# EAGLE library part TSW-147-02-S-S (library con-samtec)
THROUGH-HOLE .025" SQ POST HEADER Source: Samtec TSW.pdf
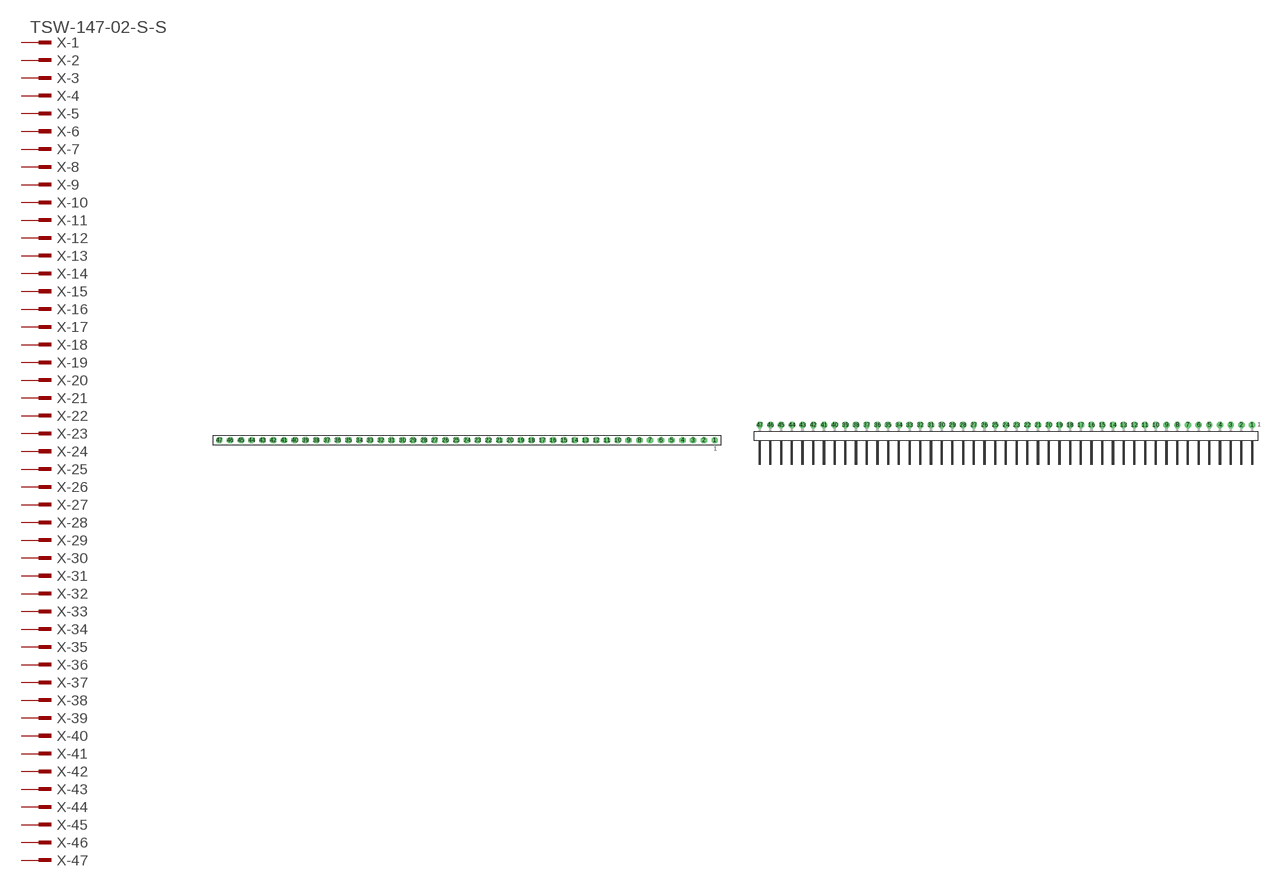
[diagram p199: symbol with the pads of TSW-147-02-S-S; footprints TSW-147-02-S-S, TSW-147-02-S-S-RA]

Designator prefix X; gates -1=MPINV -2=MPIN -3=MPIN -4=MPIN -5=MPIN -6=MPIN -7=MPIN -8=MPIN -9=MPIN -10=MPIN -11=MPIN -12=MPIN -13=MPIN -14=MPIN -15=MPIN -16=MPIN -17=MPIN -18=MPIN -19=MPIN -20=MPIN -21=MPIN -22=MPIN -23=MPIN -24=MPIN -25=MPIN -26=MPIN -27=MPIN -28=MPIN -29=MPIN -30=MPIN -31=MPIN -32=MPIN -33=MPIN -34=MPIN -35=MPIN -36=MPIN -37=MPIN -38=MPIN -39=MPIN -40=MPIN -41=MPIN -42=MPIN -43=MPIN -44=MPIN -45=MPIN -46=MPIN -47=MPIN

## TSW-147-02-S-S (OC_FARNELL: unknown; OC_NEWARK: unknown)  [TSW-147-02-S-S]
1  -1:1  pas
2  -2:1  pas
3  -3:1  pas
4  -4:1  pas
5  -5:1  pas
6  -6:1  pas
7  -7:1  pas
8  -8:1  pas
9  -9:1  pas
10  -10:1  pas
11  -11:1  pas
12  -12:1  pas
13  -13:1  pas
14  -14:1  pas
15  -15:1  pas
16  -16:1  pas
17  -17:1  pas
18  -18:1  pas
19  -19:1  pas
20  -20:1  pas
21  -21:1  pas
22  -22:1  pas
23  -23:1  pas
24  -24:1  pas
25  -25:1  pas
26  -26:1  pas
27  -27:1  pas
28  -28:1  pas
29  -29:1  pas
30  -30:1  pas
31  -31:1  pas
32  -32:1  pas
33  -33:1  pas
34  -34:1  pas
35  -35:1  pas
36  -36:1  pas
37  -37:1  pas
38  -38:1  pas
39  -39:1  pas
40  -40:1  pas
41  -41:1  pas
42  -42:1  pas
43  -43:1  pas
44  -44:1  pas
45  -45:1  pas
46  -46:1  pas
47  -47:1  pas

## TSW-147-02-S-S-RA (OC_FARNELL: unknown; OC_NEWARK: unknown)  [TSW-147-02-S-S-RA]
Pads as for TSW-147-02-S-S

## Footprint TSW-147-02-S-S (pad centres in mm)
THROUGH-HOLE .025" SQ POST HEADER Source: Samtec TSW.pdf
drill 1 pad 1.5 octagon: 1 58.42,0; 2 55.88,0; 3 53.34,0; 4 50.8,0; 5 48.26,0; 6 45.72,0; 7 43.18,0; 8 40.64,0; 9 38.1,0; 10 35.56,0; 11 33.02,0; 12 30.48,0; 13 27.94,0; 14 25.4,0; 15 22.86,0; 16 20.32,0; 17 17.78,0; 18 15.24,0; 19 12.7,0; 20 10.16,0; 21 7.62,0; 22 5.08,0; 23 2.54,0; 24 0,0; 25 -2.54,0; 26 -5.08,0; 27 -7.62,0; 28 -10.16,0; 29 -12.7,0; 30 -15.24,0; 31 -17.78,0; 32 -20.32,0; 33 -22.86,0; 34 -25.4,0; 35 -27.94,0; 36 -30.48,0; 37 -33.02,0; 38 -35.56,0; 39 -38.1,0; 40 -40.64,0; 41 -43.18,0; 42 -45.72,0; 43 -48.26,0; 44 -50.8,0; 45 -53.34,0; 46 -55.88,0; 47 -58.42,0

## Footprint TSW-147-02-S-S-RA (pad centres in mm)
THROUGH-HOLE .025" SQ POST HEADER Source: Samtec TSW.pdf
drill 1 pad 1.5 octagon: 1 58.42,1.524; 2 55.88,1.524; 3 53.34,1.524; 4 50.8,1.524; 5 48.26,1.524; 6 45.72,1.524; 7 43.18,1.524; 8 40.64,1.524; 9 38.1,1.524; 10 35.56,1.524; 11 33.02,1.524; 12 30.48,1.524; 13 27.94,1.524; 14 25.4,1.524; 15 22.86,1.524; 16 20.32,1.524; 17 17.78,1.524; 18 15.24,1.524; 19 12.7,1.524; 20 10.16,1.524; 21 7.62,1.524; 22 5.08,1.524; 23 2.54,1.524; 24 0,1.524; 25 -2.54,1.524; 26 -5.08,1.524; 27 -7.62,1.524; 28 -10.16,1.524; 29 -12.7,1.524; 30 -15.24,1.524; 31 -17.78,1.524; 32 -20.32,1.524; 33 -22.86,1.524; 34 -25.4,1.524; 35 -27.94,1.524; 36 -30.48,1.524; 37 -33.02,1.524; 38 -35.56,1.524; 39 -38.1,1.524; 40 -40.64,1.524; 41 -43.18,1.524; 42 -45.72,1.524; 43 -48.26,1.524; 44 -50.8,1.524; 45 -53.34,1.524; 46 -55.88,1.524; 47 -58.42,1.524